# Altium schematic symbol library CAP,Film,10nF,63VDC,Radial.Schlib: 1 symbol
Pins are listed as number, name and electrical type; pins without a type are passive.

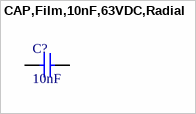
[diagram p0: symbol CAP,Film,10nF,63VDC,Radial]

## CAP,Film,10nF,63VDC,Radial
designator C?, comment 10nF
CAP FILM 10000PF 10% 63VDC RAD
pins: 1, 2